# Altium footprint library NODE.PcbLib: 29 footprints (part 1 of 2)
Each footprint in its own frame and in the unit in brackets; x right, y up, seen from the top. Pads: shape width x height; smd on the part's side, far side on the other; paste and mask are expansions set on the pad; w line width, h text height; cw(c..) or ccw(c..) is an arc to the next point about the centre after c.
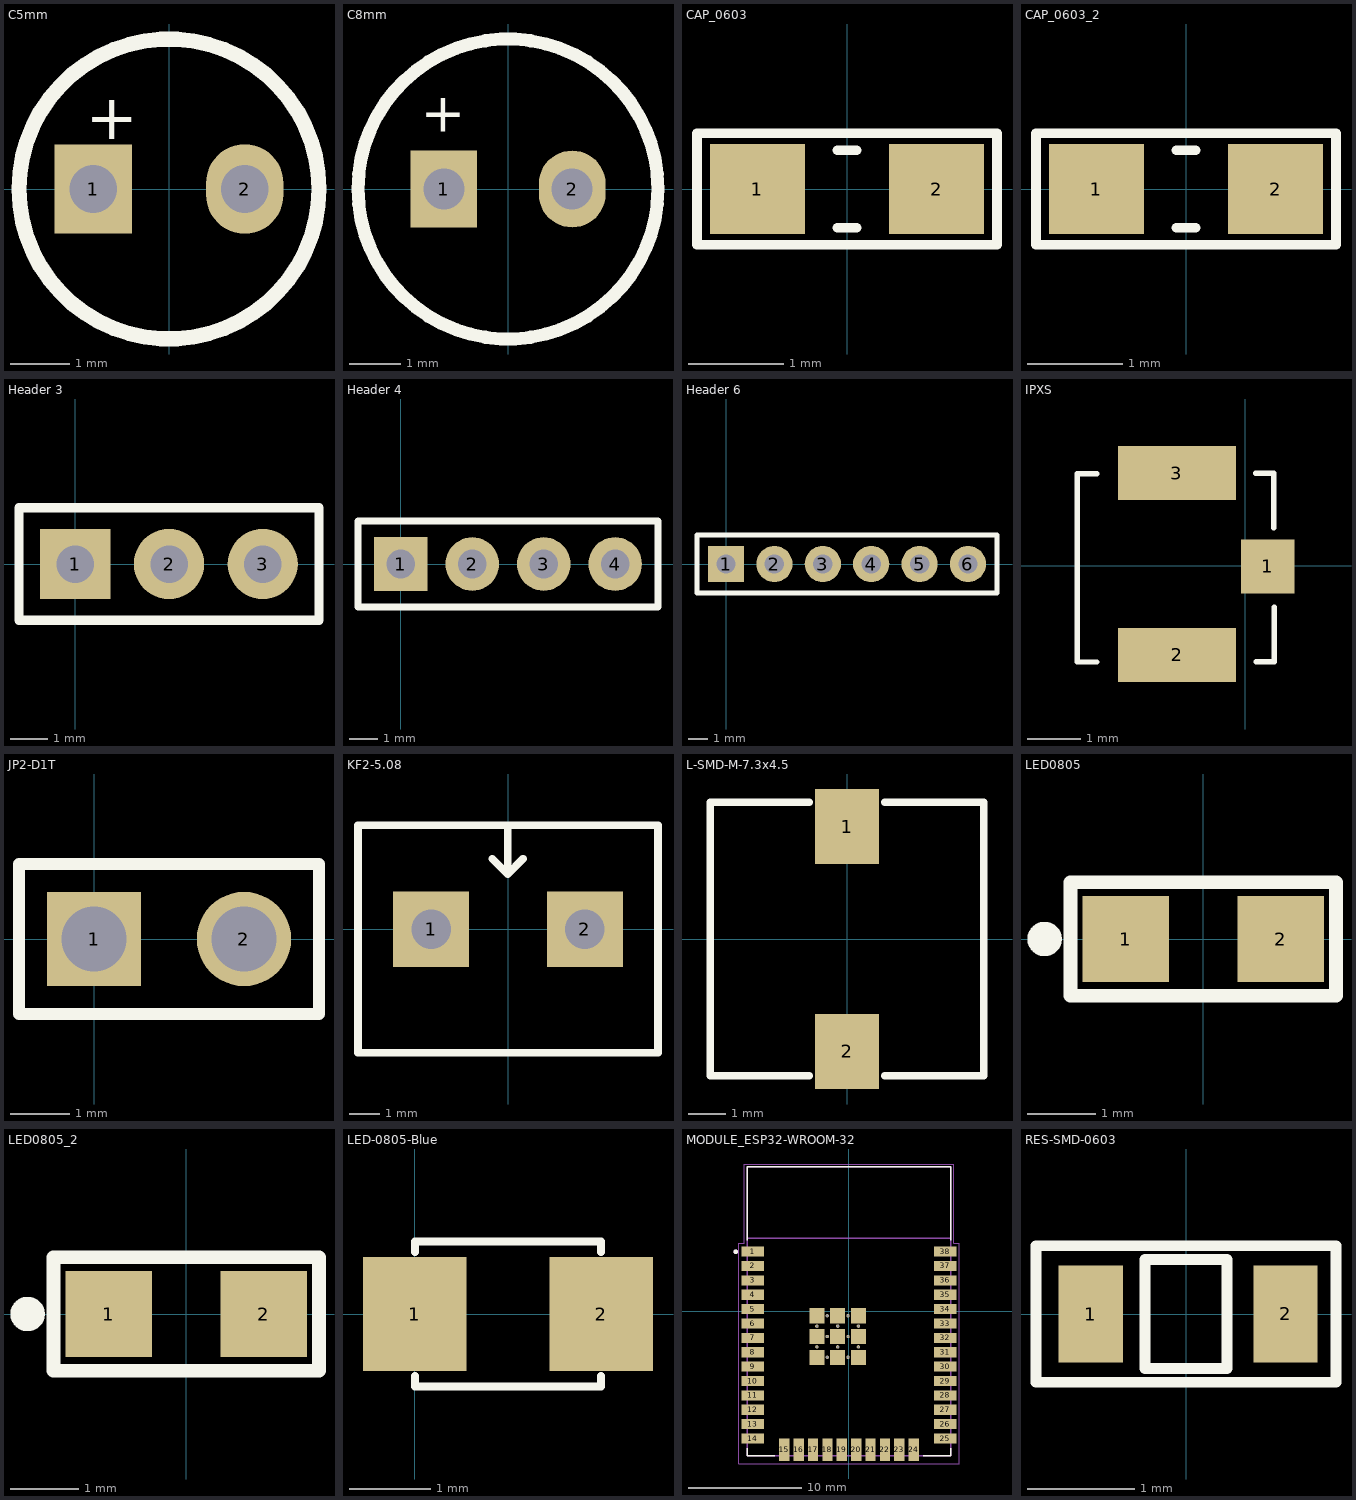
[diagram p0: the footprints below, top view; thin cyan lines are the x and y axes]

## C5mm [mm]
pads (2):
  rect 1.3x1.5 hole 0.8: 1(-1.27,0)
  oval 1.3x1.5 hole 0.8: 2(1.27,0)
Top Overlay:
  circle w0.254: c0,0 r2.515
  text "+" at -1.397,0.838 h0.76
3D body "User Library-Capacitor Radial Electrolitic 200 - 500x1100.step": height 11.01, standoff -2.7, extent -2.5,-2.5 2.489,2.5

## C8mm [mm]
height 5.08
pads (2):
  rect 1.3x1.5 hole 0.8: 1(-1.25,0)
  oval 1.3x1.5 hole 0.8: 2(1.25,0)
Top Overlay:
  circle w0.254: c0,0 r2.921
  text "+" at -1.702,1.118 h0.76
3D body "User Library-Capacitor Radial Electrolitic 250-630x1150.step": height 11.51, standoff -2.7, extent -3.15,-3.15 3.133,3.15

## CAP_0603 [mm]
height 5.08
pads (2):
  rect 1x0.95 smd mask+0.076: 1(-0.94,0) 2(0.94,0)
Top Overlay:
  lines w0.102: -0.102,-0.406 0.102,-0.406 ; -0.102,0.406 0.102,0.406 ; -1.575,-0.584 -1.575,0.584 1.575,0.584 1.575,-0.584 -1.575,-0.584
Mechanical 13:
  lines w0.1: -0.749,-0.4 -0.749,0.4 ; 0.851,-0.4 0.851,0.4
3D body "User Library-CAPC1608X09.step": height 0.9, standoff 0, extent -0.775,-0.394 0.825,0.406

## CAP_0603_2 [mm]
pads (2):
  rect 1x0.95 smd mask+0.076: 1(-0.94,0) 2(0.94,0)
Top Overlay:
  lines w0.102: -0.102,-0.406 0.102,-0.406 ; -0.102,0.406 0.102,0.406 ; -1.575,-0.584 -1.575,0.584 1.575,0.584 1.575,-0.584 -1.575,-0.584
Mechanical 13:
  lines w0.1: -0.749,-0.4 -0.749,0.4 ; 0.851,-0.4 0.851,0.4
3D body "User Library-CAPC1608X09.step": height 0.9, standoff 0, extent -0.775,-0.394 0.825,0.406

## Header 3 [mil] "Connector; Header; 3 Position; Solder Pad 35mil"
height 200
pads (3):
  rect 75x75 hole 40: 1(0,0)
  round 75 hole 40: 2(100,0) 3(200,0)
Top Overlay:
  lines w10: -60,-60 260,-60 260,60 -60,60 -60,-60
3D body "Samtec-TSW-103-07-G-S.step": height 83, standoff -347, extent -50,-50 250,50

## Header 4 [mil] "Connector; Header; 4 Position; Solder Pad 35mil"
height 200
pads (4):
  rect 75x75 hole 40: 1(0,0)
  round 75 hole 40: 2(100,0) 3(200,0) 4(300,0)
Top Overlay:
  lines w10: -60,-60 -60,60 360,60 360,-60 -60,-60
3D body "Samtec-TSW-104-07-G-S.step": height 330, standoff -100, extent -50,-50 350,50

## Header 6 [mil] "Connector; Header; 6 Position; Solder Pad 35mil"
height 200
pads (6):
  rect 75x75 hole 40: 1(0,0)
  round 75 hole 40: 2(100,0) 3(200,0) 4(300,0) 5(400,0) 6(500,0)
Top Overlay:
  lines w10: -60,-60 -60,60 560,60 560,-60 -60,-60
3D body "Samtec-TSW-106-07-G-S.step": height 330, standoff -100, extent -50,-50 550,50

## IPXS [mm] "SOT 23 _ 1-3-2"
height 1.27
pads (3):
  rect 1x1 smd: 1(0.415,-0.01)
  rect 2.2x1 smd: 2(-1.273,-1.658) 3(-1.278,1.73)
Top Overlay:
  lines w0.1: -2.767,-1.79 -3.13,-1.79 -3.13,1.716 -2.767,1.716 ; 0.193,1.726 0.524,1.726 0.524,0.709 ; 0.202,-1.783 0.533,-1.783 0.533,-0.766
3D body: height 0.15, standoff 0, extent -0.141,-0.428 0.308,0.406
3D body: height 0.15, standoff 0, extent -2.056,1.103 -0.488,1.561
3D body: height 0.4, standoff 0.1, extent -2.569,-1.262 0.025,1.332
3D body: height 1.55, standoff 0.2, extent -2.274,-1.036 -0.282,0.96
3D body: height 0.15, standoff 0, extent -2.829,-0.415 -2.38,0.419
3D body: height 0.15, standoff 0, extent -2.056,-1.491 -0.488,-1.033
3D body: height 1.55, standoff 0.2, extent -1.48,-0.238 -1.082,0.162

## JP2-D1T [mm] "2 pins, 1 row, straight, gold plating"
height 8.54
pads (2):
  rect 1.6x1.6 hole 1.1: 1(0,0)
  round 1.6 hole 1.1: 2(2.54,0)
Top Overlay:
  lines w0.2: -1.27,-1.27 -1.27,1.27 3.81,1.27 3.81,-1.27 -1.27,-1.27
3D body "61300211121.stp": height 8.54, standoff -3, extent -1.27,-1.27 3.81,1.27

## KF2-5.08 [mm]
height 5.08
pads (2):
  rect 2.5x2.5 hole 1.3: 1(-2.54,0) 2(2.54,0)
Top Overlay:
  lines w0.254: -0.521,2.324 -0.013,1.816 ; -0.013,3.378 -0.013,1.816 ; 0.495,2.324 -0.013,1.816 ; -4.953,-4.077 4.953,-4.077 4.953,3.429 -4.953,3.429 -4.953,-4.077
3D body "SW3DPS-HDR1x2-MED-GREEN.STEP": height 10, standoff -4, extent -5,-4.071 5,3.429

## L-SMD-M-7.3x4.5 [mm] "WE-PDA SMD Shielded Power Inductor, 7345"
height 4
pads (2):
  rect 1.7x2 smd: 1(0,3) 2(0,-3)
Top Overlay:
  lines w0.2: -1,-3.65 -3.65,-3.65 -3.65,3.65 -1,3.65 ; 1,-3.65 3.65,-3.65 3.65,3.65 1,3.65
3D body "IndPDA_7345.stp": height 4.05, standoff 0.05, extent -3.65,-3.65 3.65,3.65

## LED0805 [mil] "Chip Resistor; Body 2.0 x 1.3 mm (LxW typ)"
height 100
pads (2):
  rect 50x50 smd: 1(-45,0) 2(45,0)
Top Overlay:
  circle w10: c-92,0 r5
  lines w7.87: 77,32 77,-33 -77,-33 -77,33 77,33
3D body: height 19.68, standoff 0, extent -60,-25 60,25
3D body: height 47.24, standoff 19.68, extent -35,-25 35,25

## LED0805_2 [mil]
pads (2):
  rect 50x50 smd: 1(-45,0) 2(45,0)
Top Overlay:
  circle w10: c-92,0 r5
  lines w7.87: 77,32 77,-33 -77,-33 -77,33 77,33
3D body: height 19.68, standoff 0, extent -60,-25 60,25
3D body: height 47.24, standoff 19.68, extent -35,-25 35,25

## LED-0805-Blue [mil]
height 200
pads (2):
  rect 50x55 smd: 1(0,0) 2(90,0)
Top Overlay:
  lines w4: 0,-30 0,-35 90,-35 90,-30 ; 0,30 0,35 90,35 90,30
3D body "User Library-led_0805-blue.step": height 43.31, standoff 0, extent 5.24,-24.6 84.77,24.61

## MODULE_ESP32-WROOM-32 [mm]
height 5.08
pads (59):
  rect 2x0.9 smd: 1(-8.5,5.26) 2(-8.5,3.99) 3(-8.5,2.72) 4(-8.5,1.45) 5(-8.5,0.18) 6(-8.5,-1.09) 7(-8.5,-2.36) 8(-8.5,-3.63) 9(-8.5,-4.9) 10(-8.5,-6.17) 11(-8.5,-7.44) 12(-8.5,-8.71) 13(-8.5,-9.98) 14(-8.5,-11.25) 25(8.5,-11.25) 26(8.5,-9.98) 27(8.5,-8.71) 28(8.5,-7.44) 29(8.5,-6.17) 30(8.5,-4.9) 31(8.5,-3.63) 32(8.5,-2.36) 33(8.5,-1.09) 34(8.5,0.18) 35(8.5,1.45) 36(8.5,2.72) 37(8.5,3.99) 38(8.5,5.26)
  rect 0.9x2 smd: 15(-5.715,-12.25) 16(-4.445,-12.25) 17(-3.175,-12.25) 18(-1.905,-12.25) 19(-0.635,-12.25) 20(0.635,-12.25) 21(1.905,-12.25) 22(3.175,-12.25) 23(4.445,-12.25) 24(5.715,-12.25)
  rect 1.33x1.33 smd: 39_1(-2.835,-0.405) 39_2(-1,-0.405) 39_3(0.835,-0.405) 39_4(-2.835,-2.24) 39_5(-1,-2.24) 39_6(0.835,-2.24) 39_7(-2.835,-4.075) 39_8(-1,-4.075) 39_9(0.835,-4.075)
  round 0.3 hole 0.2: 39_10(-1.917,-0.405) 39_11(-0.082,-0.405) 39_12(-2.835,-1.322) 39_13(-1,-1.322) 39_14(0.835,-1.322) 39_15(-1.917,-2.24) 39_16(-0.082,-2.24) 39_17(-2.835,-3.157) 39_18(-1,-3.157) 39_19(0.835,-3.157) 39_20(-1.917,-4.075) 39_21(-0.082,-4.075)
Top Overlay:
  circle w0.2: c-10,5.25 r0.1
  lines w0.127: -9,-12.1 -9,-12.75 -6.55,-12.75 ; -9,6.25 -9,12.75 9,12.75 9,6.25 ; 6.55,-12.75 9,-12.75 9,-12.1
Mechanical 13:
  circle w0.2: c-10,5.25 r0.1
  lines w0.127: -9,6.45 9,6.45 ; -9,6.45 -9,12.75 9,12.75 9,6.45 ; -9,6.45 -9,-12.75 9,-12.75 9,6.45
  text "ANTENNA" at -6,9 h0.76
Mechanical 15:
  lines w0.05: -9.75,-13.5 -9.75,6 -9.25,6 -9.25,13 9.25,13 9.25,6 9.75,6 9.75,-13.5 -9.75,-13.5
3D body "ESP32-WROOM-32.STEP": height 3.2, standoff 0, extent -9.017,-12.75 8.983,12.75
3D body: height 0.25, standoff 0, extent -10.541,10.287 -10.541,10.287

## RES-SMD-0603 [mm]
height 5.08
pads (2):
  rect 0.6x0.9 smd: 1(-0.889,0) 2(0.927,0)
Top Overlay:
  lines w0.1: -1.397,-0.635 -1.397,0.635 1.397,0.635 1.397,-0.635 0.889,-0.635 -1.397,-0.635 ; -0.381,-0.508 -0.381,0.508 0.381,0.508 0.381,-0.508 -0.381,-0.508
3D body "User Library-SMD RESISTOR-1 (3).step": height 0.43, standoff -0.03, extent -0.8,-0.4 0.8,0.4